# Altium footprint library SMU.PcbLib: 2 footprints
Each footprint in its own frame and in the unit in brackets; x right, y up, seen from the top. Pads: shape width x height; smd on the part's side, far side on the other; paste and mask are expansions set on the pad; w line width, h text height; cw(c..) or ccw(c..) is an arc to the next point about the centre after c.
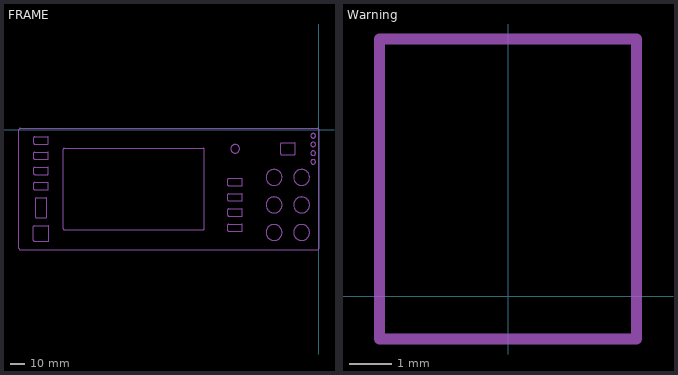
[diagram p0: the footprints below, top view; thin cyan lines are the x and y axes]

## FRAME [mm]
Mechanical 2:
  circle w0.2: c-3.992,-22.262 r1.6
  circle w0.2: c-3.992,-10.262 r1.6
  circle w0.2: c-3.992,-4.262 r1.6
  circle w0.2: c-11.992,-71.012 r5.5
  circle w0.2: c-30.992,-71.012 r5.5
  circle w0.2: c-11.992,-52.012 r5.5
  circle w0.2: c-30.992,-52.012 r5.5
  circle w0.2: c-11.992,-33.012 r5.5
  circle w0.2: c-30.992,-33.012 r5.5
  circle w0.2: c-3.992,-16.262 r1.6
  circle w0.2: c-57.832,-13.262 r3
  lines w0.2: -206.992,-82.012 ccw(c-205.992,-82.012) -205.992,-83.012 -0.992,-83.012 ccw(c-0.992,-82.012) 0.008,-82.012 0.008,-0.012 ccw(c-0.992,-0.012) -0.992,0.988 -205.992,0.988 ccw(c-205.992,-0.012) -206.992,-0.012 -206.992,-82.012 ; -196.992,-76.512 ccw(c-196.492,-76.512) -196.492,-77.012 -186.892,-77.012 ccw(c-186.892,-76.512) -186.392,-76.512 -186.392,-66.912 ccw(c-186.892,-66.912) -186.892,-66.412 -196.492,-66.412 ccw(c-196.492,-66.912) -196.992,-66.912 -196.992,-76.512 ; -196.692,-41.012 ccw(c-196.192,-41.012) -196.192,-41.512 -187.192,-41.512 ccw(c-187.192,-41.012) -186.692,-41.012 -186.692,-37.012 ccw(c-187.192,-37.012) -187.192,-36.512 -196.192,-36.512 ccw(c-196.192,-37.012) -196.692,-37.012 -196.692,-41.012 ; -196.692,-30.512 ccw(c-196.192,-30.512) -196.192,-31.012 -187.192,-31.012 ccw(c-187.192,-30.512) -186.692,-30.512 -186.692,-26.512 ccw(c-187.192,-26.512) -187.192,-26.012 -196.192,-26.012 ccw(c-196.192,-26.512) -196.692,-26.512 -196.692,-30.512 ; -196.692,-20.012 ccw(c-196.192,-20.012) -196.192,-20.512 -187.192,-20.512 ccw(c-187.192,-20.012) -186.692,-20.012 -186.692,-16.012 ccw(c-187.192,-16.012) -187.192,-15.512 -196.192,-15.512 ccw(c-196.192,-16.012) -196.692,-16.012 -196.692,-20.012 ; -196.692,-9.512 ccw(c-196.192,-9.512) -196.192,-10.012 -187.192,-10.012 ccw(c-187.192,-9.512) -186.692,-9.512 -186.692,-5.512 ccw(c-187.192,-5.512) -187.192,-5.012 -196.192,-5.012 ccw(c-196.192,-5.512) -196.692,-5.512 -196.692,-9.512 ; -195.442,-60.412 ccw(c-194.942,-60.412) -194.942,-60.912 -188.442,-60.912 ccw(c-188.442,-60.412) -187.942,-60.412 -187.942,-47.512 ccw(c-188.442,-47.512) -188.442,-47.012 -194.942,-47.012 ccw(c-194.942,-47.512) -195.442,-47.512 -195.442,-60.412 ; -176.392,-68.462 ccw(c-175.642,-68.462) -175.642,-69.212 -79.922,-69.212 ccw(c-79.922,-68.462) -79.172,-68.462 -79.172,-13.562 ccw(c-79.922,-13.562) -79.922,-12.812 -175.642,-12.812 ccw(c-175.642,-13.562) -176.392,-13.562 -176.392,-68.462 ; -62.832,-69.762 ccw(c-62.332,-69.762) -62.332,-70.262 -53.332,-70.262 ccw(c-53.332,-69.762) -52.832,-69.762 -52.832,-65.762 ccw(c-53.332,-65.762) -53.332,-65.262 -62.332,-65.262 ccw(c-62.332,-65.762) -62.832,-65.762 -62.832,-69.762 ; -62.832,-59.262 ccw(c-62.332,-59.262) -62.332,-59.762 -53.332,-59.762 ccw(c-53.332,-59.262) -52.832,-59.262 -52.832,-55.262 ccw(c-53.332,-55.262) -53.332,-54.762 -62.332,-54.762 ccw(c-62.332,-55.262) -62.832,-55.262 -62.832,-59.262 ; -62.832,-48.762 ccw(c-62.332,-48.762) -62.332,-49.262 -53.332,-49.262 ccw(c-53.332,-48.762) -52.832,-48.762 -52.832,-44.762 ccw(c-53.332,-44.762) -53.332,-44.262 -62.332,-44.262 ccw(c-62.332,-44.762) -62.832,-44.762 -62.832,-48.762 ; -62.832,-38.262 ccw(c-62.332,-38.262) -62.332,-38.762 -53.332,-38.762 ccw(c-53.332,-38.262) -52.832,-38.262 -52.832,-34.262 ccw(c-53.332,-34.262) -53.332,-33.762 -62.332,-33.762 ccw(c-62.332,-34.262) -62.832,-34.262 -62.832,-38.262 ; -26.492,-16.762 ccw(c-25.992,-16.762) -25.992,-17.262 -16.992,-17.262 ccw(c-16.992,-16.762) -16.492,-16.762 -16.492,-9.762 ccw(c-16.992,-9.762) -16.992,-9.262 -25.992,-9.262 ccw(c-25.992,-9.762) -26.492,-9.762 -26.492,-16.762

## Warning [mm]
Top Solder:
  lines w0.3: -2.5,0 2.5,0 0,5 -2.5,0
  text "!" at -0.235,0.386 h5
Mechanical 1:
  lines w0.254: -3,-1 3,-1 3,6 -3,6 -3,-1